# Altium footprint library pcbLib_Switch_Powerdetec.PcbLib: 30 footprints (part 2 of 2)
Each footprint in its own frame and in the unit in brackets; x right, y up, seen from the top. Pads: shape width x height; smd on the part's side, far side on the other; paste and mask are expansions set on the pad; w line width, h text height; cw(c..) or ccw(c..) is an arc to the next point about the centre after c.
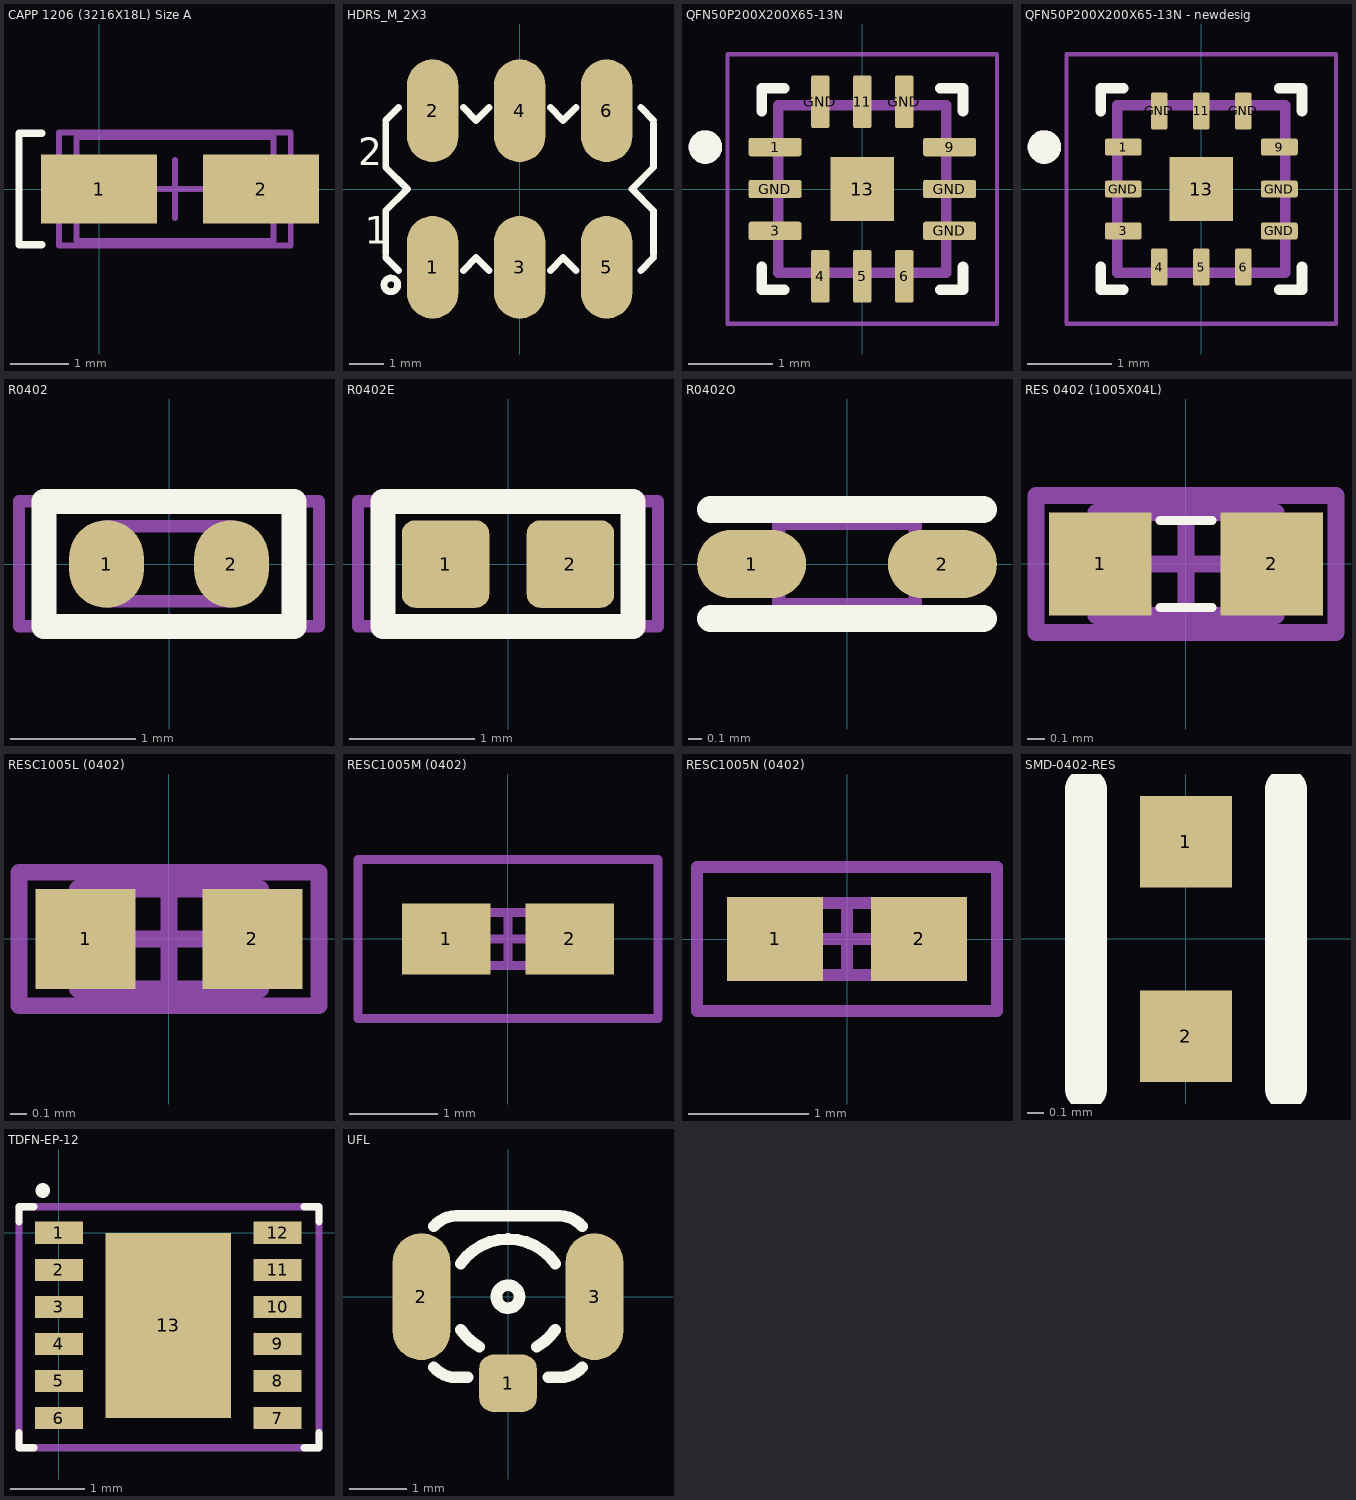
[diagram p1: the footprints below, top view; thin cyan lines are the x and y axes]

## CAPP 1206 (3216X18L) Size A [mm] "Chip Capacitor, 2-Leads, Body 3.2x1.6mm, IPC High Density, chip Tantalum"
height 1.8
pads (2):
  rect 1.999x1.199 smd: 1(0,0) 2(2.8,0)
Top Overlay:
  lines w0.127: -0.988,-0.965 -1.382,-0.965 -1.382,0.965 -0.988,0.965
Mechanical 13:
  lines w0.1: -0.389,-0.9 3.011,-0.9 3.011,0.9 -0.389,0.9 -0.389,-0.9
Mechanical 15:
  lines w0.1: 0.811,0 1.811,0 ; 1.311,-0.5 1.311,0.5 ; -0.689,-0.975 -0.689,0.975 3.311,0.975 3.311,-0.975 -0.689,-0.975
3D body "SW3dPS-Solid Tantalum Chip Capacitor Size (A-3216-18).STEP": height 1.8, standoff 0, extent -0.429,-0.902 3.21,0.902

## HDRS_M_2X3 [mm] "Connector; Header; 3x2 Position, SMD"
pads (6):
  oval 1.5x3 smd: 1(-2.54,-2.286) 2(-2.54,2.286) 3(0,-2.286) 4(0,2.286) 5(2.54,-2.286) 6(2.54,2.286)
Top Overlay:
  circle w0.2: c-3.76,-2.8 r0.2
  lines w0.2: -3.91,-2.005 -3.537,-2.378 ; -3.91,-1.905 -3.91,-0.635 -3.275,0 -3.91,0.635 -3.91,1.905 ; -3.91,2.005 -3.537,2.378 ; -1.643,-2.378 -1.27,-2.005 -0.897,-2.378 ; -1.643,2.378 -1.27,2.005 -0.897,2.378 ; 0.897,-2.378 1.27,-2.005 1.643,-2.378 ; 0.897,2.378 1.27,2.005 1.643,2.378 ; 3.537,-2.378 3.91,-2.005 ; 3.537,2.378 3.91,2.005 ; 3.91,-1.905 3.91,-0.635 3.275,0 3.91,0.635 3.91,1.905
  text "2" at -4.72,0.7 h0.8
  text "1" at -4.52,-1.6 h0.8
3D body "HEADER2X3SMD.stp": height 9.54, standoff -0.11, extent -3.81,-3.492 3.81,3.493

## QFN50P200X200X65-13N [mm]
pads (13):
  rrect25% 0.63x0.22 smd: 1(-1.04,0.5) 3(-1.04,-0.5) 9(1.04,0.5) GND(-1.04,0) GND(1.04,-0.5) GND(1.04,0)
  rrect25% 0.22x0.63 smd: 4(-0.5,-1.04) 5(0,-1.04) 6(0.5,-1.04) 11(0,1.04) GND(-0.5,1.04) GND(0.5,1.04)
  rect 0.76x0.76 smd paste-0.14: 13(0,0)
Top Overlay:
  circle w0.2: c-1.87,0.5 r0.1
  lines w0.127: -1.2,-0.93 -1.2,-1.2 -0.93,-1.2 ; -1.2,0.93 -1.2,1.2 -0.93,1.2 ; 0.93,-1.2 1.2,-1.2 1.2,-0.93 ; 0.93,1.2 1.2,1.2 1.2,0.93
Mechanical 13:
  circle w0.2: c-1.87,0.5 r0.1
  lines w0.127: -1,-1 1,-1 1,1 -1,1 -1,-1
Mechanical 15:
  lines w0.05: -1.605,-1.605 1.605,-1.605 1.605,1.605 -1.605,1.605 -1.605,-1.605
3D body: height 0.2, standoff 0, extent 0.39,0.725 0.61,1.355
3D body: height 0.2, standoff 0, extent -1.355,0.39 -0.725,0.61
3D body: height 0.2, standoff 0, extent -1.355,-0.11 -0.725,0.11
3D body: height 0.2, standoff 0, extent -1.355,-0.61 -0.725,-0.39
3D body: height 0.2, standoff 0, extent -0.61,-1.355 -0.39,-0.725
3D body: height 0.2, standoff 0, extent -0.11,-1.355 0.11,-0.725
3D body: height 0.2, standoff 0, extent 0.39,-1.355 0.61,-0.725
3D body: height 0.2, standoff 0, extent 0.725,-0.61 1.355,-0.39
3D body: height 0.2, standoff 0, extent 0.725,-0.11 1.355,0.11
3D body: height 0.2, standoff 0, extent 0.725,0.39 1.355,0.61
3D body: height 0.2, standoff 0, extent -0.11,0.725 0.11,1.355
3D body: height 0.2, standoff 0, extent -0.61,0.725 -0.39,1.355
3D body: height 0.56, standoff 0, extent -1.016,0.762 -0.762,1.016
3D body: height 0.55, standoff 0.02, extent -1.27,-1.27 1.27,1.27
3D body: height 0.56, standoff 0, extent 0.975,-1.223 1.083,-1.082
3D body: height 0.56, standoff 0, extent 1.012,-1.07 1.034,-1.045
3D body: height 0.56, standoff 0, extent 1.14,-1.162 1.162,-1.137
3D body: height 0.56, standoff 0, extent 1.1,-1.222 1.208,-1.081
3D body: height 0.56, standoff 0, extent -0.884,0.27 -0.659,0.65
3D body: height 0.51, standoff 0, extent 0.283,-0.436 0.513,-0.056
3D body: height 0.56, standoff 0, extent -0.296,-0.436 -0.067,-0.056
3D body: height 0.56, standoff 0, extent -0.369,0.17 -0.127,0.551
3D body: height 0.56, standoff 0, extent -0.586,-0.436 -0.357,-0.056
3D body: height 0.56, standoff 0, extent -0.854,-0.427 -0.642,-0.065
3D body: height 0.56, standoff 0, extent -0.597,0.279 -0.389,0.668
3D body: height 0.56, standoff 0, extent -0.007,-0.427 0.232,-0.065

## QFN50P200X200X65-13N - newdesig [mm]
pads (13):
  rrect25% 0.44x0.2 smd: 1(-0.93,0.5) 3(-0.93,-0.5) 9(0.93,0.5) GND(-0.93,0) GND(0.93,-0.5) GND(0.93,0)
  rrect25% 0.2x0.44 smd: 4(-0.5,-0.93) 5(0,-0.93) 6(0.5,-0.93) 11(0,0.93) GND(-0.5,0.93) GND(0.5,0.93)
  rect 0.76x0.76 smd paste-0.14: 13(0,0)
Top Overlay:
  circle w0.2: c-1.87,0.5 r0.1
  lines w0.127: -1.2,-0.93 -1.2,-1.2 -0.93,-1.2 ; -1.2,0.93 -1.2,1.2 -0.93,1.2 ; 0.93,-1.2 1.2,-1.2 1.2,-0.93 ; 0.93,1.2 1.2,1.2 1.2,0.93
Mechanical 13:
  circle w0.2: c-1.87,0.5 r0.1
  lines w0.127: -1,-1 1,-1 1,1 -1,1 -1,-1
Mechanical 15:
  lines w0.05: -1.605,-1.605 1.605,-1.605 1.605,1.605 -1.605,1.605 -1.605,-1.605
3D body: height 0.55, standoff 0.02, extent -1.053,-1.053 1.051,1.059
3D body: height 0.56, standoff 0, extent -0.767,0.624 -0.513,0.878
3D body: height 0.2, standoff 0, extent -0.6,0.71 -0.4,1.06
3D body: height 0.2, standoff 0, extent -0.1,0.71 0.1,1.06
3D body: height 0.2, standoff 0, extent 0.4,0.71 0.6,1.06
3D body: height 0.2, standoff 0, extent 0.71,0.4 1.06,0.6
3D body: height 0.2, standoff 0, extent 0.71,-0.1 1.06,0.1
3D body: height 0.2, standoff 0, extent 0.71,-0.6 1.06,-0.4
3D body: height 0.2, standoff 0, extent 0.4,-1.06 0.6,-0.71
3D body: height 0.2, standoff 0, extent -0.1,-1.06 0.1,-0.71
3D body: height 0.2, standoff 0, extent -0.6,-1.06 -0.4,-0.71
3D body: height 0.2, standoff 0, extent -1.06,-0.6 -0.71,-0.4
3D body: height 0.2, standoff 0, extent -1.06,-0.1 -0.71,0.1
3D body: height 0.2, standoff 0, extent -1.06,0.4 -0.71,0.6
3D body: height 0.56, standoff 0, extent 0.679,-0.866 0.787,-0.726
3D body: height 0.56, standoff 0, extent 0.716,-0.714 0.738,-0.688
3D body: height 0.56, standoff 0, extent 0.844,-0.806 0.866,-0.781
3D body: height 0.56, standoff 0, extent 0.804,-0.866 0.912,-0.725
3D body: height 0.56, standoff 0, extent -0.744,0.17 -0.519,0.55
3D body: height 0.51, standoff 0, extent 0.423,-0.536 0.653,-0.156
3D body: height 0.56, standoff 0, extent -0.156,-0.536 0.073,-0.156
3D body: height 0.56, standoff 0, extent -0.229,0.07 0.013,0.451
3D body: height 0.56, standoff 0, extent -0.446,-0.536 -0.217,-0.156
3D body: height 0.56, standoff 0, extent -0.714,-0.527 -0.502,-0.165
3D body: height 0.56, standoff 0, extent -0.457,0.179 -0.249,0.568
3D body: height 0.56, standoff 0, extent 0.133,-0.527 0.372,-0.165

## R0402 [mm] "CHIP Resistor 1/16 WATT, 1.0X0.5mm, 0402, 1005"
height 0.4
pads (2):
  oval 0.6x0.7 smd mask+0.075: 1(-0.5,0) 2(0.5,0)
Top Overlay:
  lines w0.2: -1,-0.5 1,-0.5 1,0.5 -1,0.5 -1,-0.5
Mechanical 13:
  lines w0.1: -0.5,-0.3 -0.5,0.3 0.5,0.3 0.5,-0.3 -0.5,-0.3
Mechanical 15:
  lines w0.1: -1.2,-0.5 1.2,-0.5 1.2,0.5 -1.2,0.5 -1.2,-0.5
3D body "User Library-RES_1005-0402.step": height 0.41, standoff 0, extent -0.575,-0.275 0.575,0.275

## R0402E [mm] "CHIP Resistor 1/16 WATT, 1.0X0.5mm, EXPANDED PAD"
height 0.4
pads (2):
  rrect30% 0.7x0.7 smd mask+0.075: 1(-0.5,0) 2(0.5,0)
Top Overlay:
  lines w0.2: -1,-0.5 -1,0.5 1,0.5 1,-0.5 -1,-0.5
Mechanical 15:
  lines w0.1: -1.2,-0.5 -1.2,0.5 1.2,0.5 1.2,-0.5 -1.2,-0.5
3D body "User Library-RES_1005-0402.step": height 0.41, standoff 0, extent -0.575,-0.275 0.575,0.275

## R0402O [mm] "0402 Optimized for place close together"
pads (2):
  oval 0.8x0.5 smd mask+0.075: 1(-0.7,0) 2(0.7,0)
Top Overlay:
  lines w0.2: -1,-0.4 1,-0.4 ; -1,0.4 1,0.4
Mechanical 13:
  lines w0.1: -0.5,-0.3 0.5,-0.3 0.5,0.3 -0.5,0.3 -0.5,-0.3
3D body "User Library-RES_1005-0402.step": height 0.41, standoff 0, extent -0.575,-0.275 0.575,0.275

## RES 0402 (1005X04L) [mm] "Chip Resistor, 2-Leads, Body 1.0x0.5mm, IPC High Density _ (0.031/0.063 W)"
height 0.4
pads (2):
  rect 0.6x0.6 smd: 1(-0.5,0) 2(0.5,0)
Top Overlay:
  lines w0.051: -0.152,-0.254 0.152,-0.254 ; -0.152,0.254 0.152,0.254
Mechanical 13:
  lines w0.1: -0.525,-0.3 0.525,-0.3 0.525,0.3 -0.525,0.3 -0.525,-0.3
Mechanical 15:
  lines w0.1: -0.3,0 0.3,0 ; 0,-0.3 0,0.3 ; -0.875,-0.4 0.875,-0.4 0.875,0.4 -0.875,0.4 -0.875,-0.4
3D body "0402.STEP": height 0.35, standoff 0, extent -0.508,-0.254 0.508,0.254

## RESC1005L (0402) [mm] "Chip Resistor, Body 1.1x0.5mm, IPC High Density"
height 0.4
pads (2):
  rect 0.6x0.6 smd: 1(-0.5,0) 2(0.5,0)
Mechanical 13:
  lines w0.1: -0.55,-0.3 0.55,-0.3 0.55,0.3 -0.55,0.3 -0.55,-0.3
Mechanical 15:
  lines w0.1: -0.3,0 0.3,0 ; 0,-0.3 0,0.3 ; -0.9,-0.4 0.9,-0.4 0.9,0.4 -0.9,0.4 -0.9,-0.4
3D body "0402.STEP": height 0.35, standoff 0, extent -0.508,-0.254 0.508,0.254

## RESC1005M (0402) [mm] "Chip Resistor, Body 1.1x0.5mm, IPC Low Density"
height 0.4
pads (2):
  rect 1x0.8 smd: 1(-0.7,0) 2(0.7,0)
Mechanical 13:
  lines w0.1: -0.55,-0.3 0.55,-0.3 0.55,0.3 -0.55,0.3 -0.55,-0.3
Mechanical 15:
  lines w0.1: -0.3,0 0.3,0 ; 0,-0.3 0,0.3 ; -1.7,-0.9 1.7,-0.9 1.7,0.9 -1.7,0.9 -1.7,-0.9
3D body "0402.STEP": height 0.35, standoff 0, extent -0.508,-0.254 0.508,0.254

## RESC1005N (0402) [mm] "Chip Resistor, Body 1.1x0.5mm, IPC Medium Density"
height 0.4
pads (2):
  rect 0.8x0.7 smd: 1(-0.6,0) 2(0.6,0)
Mechanical 13:
  lines w0.1: -0.55,-0.3 0.55,-0.3 0.55,0.3 -0.55,0.3 -0.55,-0.3
Mechanical 15:
  lines w0.1: -0.3,0 0.3,0 ; 0,-0.3 0,0.3 ; -1.25,-0.6 1.25,-0.6 1.25,0.6 -1.25,0.6 -1.25,-0.6
3D body "0402.STEP": height 0.35, standoff 0, extent -0.508,-0.254 0.508,0.254

## SMD-0402-RES [mm]
pads (2):
  rect 0.55x0.55 smd: 1(0,0.584) 2(0,-0.584)
Top Overlay:
  lines w0.254: -0.6,-0.9 -0.6,0.9 ; 0.6,-0.9 0.6,0.9
3D body "resistor0402.step": height 0.41, standoff 0, extent -0.275,-0.575 0.275,0.575

## TDFN-EP-12 [mm]
pads (13):
  rect 0.65x0.3 smd: 1(0,0) 2(0,-0.5) 3(0,-1) 4(0,-1.5) 5(0,-2) 6(0,-2.5) 7(2.95,-2.5) 8(2.95,-2) 9(2.95,-1.5) 10(2.95,-1) 11(2.95,-0.5) 12(2.95,0)
  rect 1.7x2.5 smd: 13(1.475,-1.25)
Top Overlay:
  lines w0.1: -0.54,-2.7 -0.54,-2.9 -0.34,-2.9 ; -0.54,0.15 -0.54,0.35 -0.34,0.35 ; 3.31,-2.9 3.51,-2.9 3.51,-2.7 ; 3.31,0.35 3.51,0.35 3.51,0.15
  lines w0.2: -0.22,0.568 ccw(c-0.359,0.57) -0.22,0.57
Mechanical 15:
  lines w0.1: -0.54,-2.9 3.51,-2.9 3.51,0.35 -0.54,0.35 -0.54,-2.9
3D body: height 0.8, standoff 0.05, extent 0.162,-0.35 0.459,-0.053
3D body: height 0.2, standoff 0, extent 2.902,-0.039 3.032,0.041
3D body: height 0.2, standoff 0, extent 2.902,-0.539 3.032,-0.459
3D body: height 0.2, standoff 0, extent 2.902,-1.039 3.032,-0.959
3D body: height 0.2, standoff 0, extent 2.902,-1.539 3.032,-1.459
3D body: height 0.2, standoff 0, extent 2.902,-2.039 3.032,-1.959
3D body: height 0.2, standoff 0, extent 2.902,-2.539 3.032,-2.459
3D body: height 0.2, standoff 0, extent -0.069,-2.54 0.061,-2.46
3D body: height 0.2, standoff 0, extent -0.069,-2.04 0.061,-1.96
3D body: height 0.2, standoff 0, extent -0.069,-1.54 0.061,-1.46
3D body: height 0.2, standoff 0, extent -0.069,-1.04 0.061,-0.96
3D body: height 0.2, standoff 0, extent -0.069,-0.54 0.061,-0.46
3D body: height 0.2, standoff 0, extent -0.069,-0.04 0.061,0.04
3D body: height 0.8, standoff 0.05, extent -0.069,-2.889 3.031,0.211

## UFL [mm] "CONN RF, COAX UP, U.FL-R-SMT-1 2.8x2.8mm"
pads (3):
  rrect50% 1x1 smd: 1(0,-1.5)
  oval 1x2.2 smd: 2(-1.5,0) 3(1.5,0)
Top Overlay:
  circle w0.2: c0,0 r0.2
  lines w0.2: -1.283,-1.222 ccw(c-0.9,-0.9) -0.9,-1.4 -0.7,-1.4 ; -1.283,1.221 cw(c-0.9,0.9) -0.9,1.4 -0.7,1.4 0.9,1.4 cw(c0.9,0.9) 1.283,1.221 ; -0.819,-0.573 ccw(c0,0) -0.5,-0.866 ; -0.819,0.573 cw(c0,0) 0.819,0.573 ; 0.5,-0.866 ccw(c0,0) 0.819,-0.573 ; 0.7,-1.4 0.9,-1.4 ccw(c0.9,-0.9) 1.283,-1.222
3D body "SW3dPS-U.FL-R-SMT-1.STEP": height 1.25, standoff -0.01, extent -1.5,-1.55 1.5,1.55